# Altium footprint library Micro Crystal AG.PcbLib: 1 footprints
Each footprint in its own frame and in the unit in brackets; x right, y up, seen from the top. Pads: shape width x height; smd on the part's side, far side on the other; paste and mask are expansions set on the pad; w line width, h text height; cw(c..) or ccw(c..) is an arc to the next point about the centre after c.
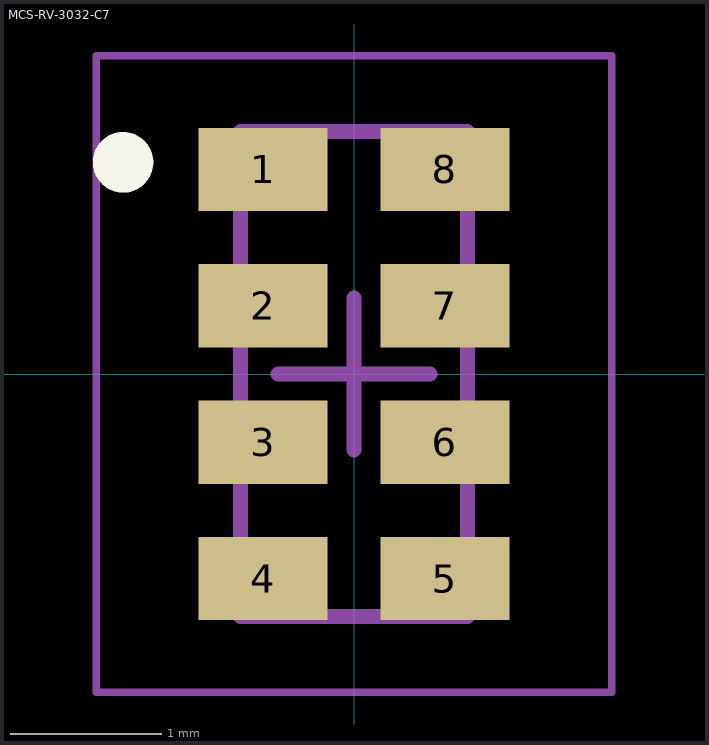
[diagram p0: the footprint, top view; thin cyan lines are the x and y axes]

## MCS-RV-3032-C7 [mm] "8-SON (3.2x1.5)"
pads (8):
  rect 0.85x0.55 smd: 1(-0.6,1.35) 2(-0.6,0.45) 3(-0.6,-0.45) 4(-0.6,-1.35) 5(0.6,-1.35) 6(0.6,-0.45) 7(0.6,0.45) 8(0.6,1.35)
Top Overlay:
  circle w0.2: c-1.524,1.397 r0.1
Mechanical 13:
  lines w0.1: -0.75,-1.6 0.75,-1.6 0.75,1.6 -0.75,1.6 -0.75,-1.6
Mechanical 15:
  lines w0.05: -1.7,-2.1 1.7,-2.1 1.7,2.1 -1.7,2.1 -1.7,-2.1
  lines w0.1: -0.5,0 0.5,0 ; 0,-0.5 0,0.5
3D body: height 0.8, standoff 0, extent -0.75,-1.6 0.75,1.603